# Altium footprint library Storage.PcbLib: 1 footprints
Each footprint in its own frame and in the unit in brackets; x right, y up, seen from the top. Pads: shape width x height; smd on the part's side, far side on the other; paste and mask are expansions set on the pad; w line width, h text height; cw(c..) or ccw(c..) is an arc to the next point about the centre after c.
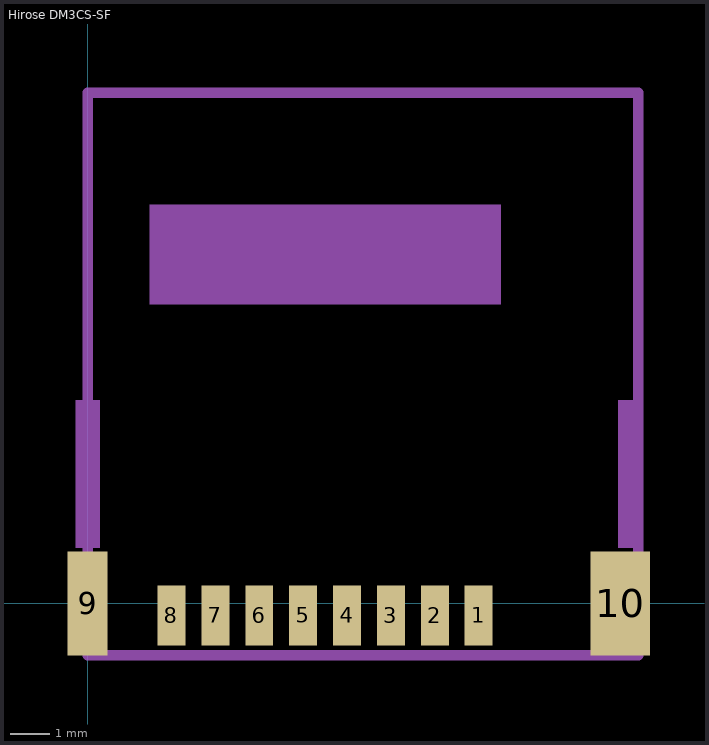
[diagram p0: the footprint, top view; thin cyan lines are the x and y axes]

## Hirose DM3CS-SF [mm] "MicroSD Card Holder, Hinge Top"
height 1.78
pads (10):
  rect 0.7x1.5 smd: 1(9.8,-0.3) 2(8.7,-0.3) 3(7.6,-0.3) 4(6.5,-0.3) 5(5.4,-0.3) 6(4.3,-0.3) 7(3.2,-0.3) 8(2.1,-0.3)
  rect 1x2.6 smd: 9(0,0)
  rect 1.5x2.6 smd: 10(13.35,0)
Mechanical 1:
  region: 13.3,1.397 13.3,5.097 13.9,5.097 13.9,1.397
  region: -0.3,1.397 -0.3,5.097 0.3,5.097 0.3,1.397
  region: 1.55,7.497 1.55,9.997 10.35,9.997 10.35,7.497
  lines w0.254: 13.8,-1.3 0,-1.3 0,12.8 13.8,12.8 ; 13.8,-1.295 13.8,12.795